# Altium footprint library PowerPAK-SO-8.PcbLib: 1 footprints
Each footprint in its own frame and in the unit in brackets; x right, y up, seen from the top. Pads: shape width x height; smd on the part's side, far side on the other; paste and mask are expansions set on the pad; w line width, h text height; cw(c..) or ccw(c..) is an arc to the next point about the centre after c.
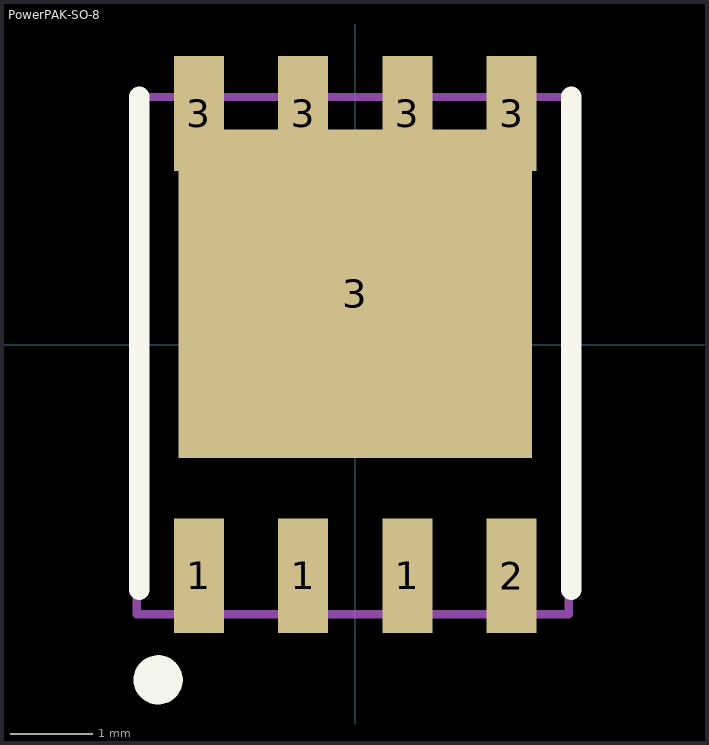
[diagram p0: the footprint, top view; thin cyan lines are the x and y axes]

## PowerPAK-SO-8 [mm]
pads (9):
  rect 0.61x1.4 smd: 1(-1.905,-2.816) 1(-0.635,-2.816) 1(0.635,-2.816) 2(1.905,-2.816) 3(-1.905,2.816) 3(-0.635,2.816) 3(0.635,2.816) 3(1.905,2.816)
  rect 4.3x4 smd: 3(0,0.616)
Top Overlay:
  circle w0.3: c-2.4,-4.084 r0.15
  lines w0.254: -2.63,-2.984 -2.63,3.016 ; 2.63,-2.984 2.63,3.016
Mechanical 13:
  lines w0.1: -2.66,-3.284 -2.66,3.016 2.6,3.016 2.6,-3.284 -2.66,-3.284
3D body: height 1.04, standoff 0, extent -2.575,-3.184 2.575,2.966